# EAGLE library part 74AC139SC (library Flipdot)
2-4 Line Decoder
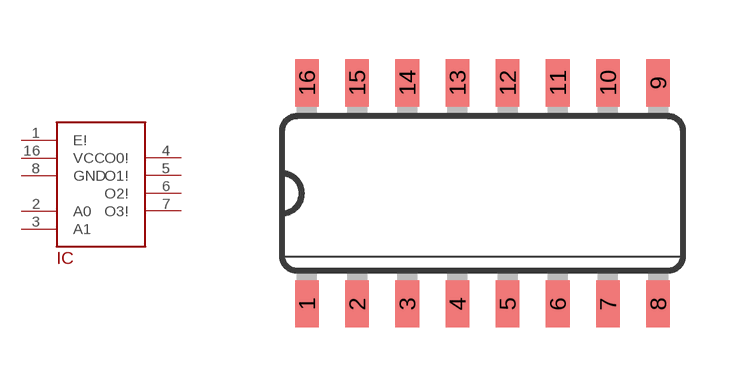
[diagram p6: symbol with the pads of SO16; footprint SO16]

Designator prefix IC

## 74AC139SC  [SO16]
1  E!
2  A0
3  A1
4  O0!
5  O1!
6  O2!
7  O3!
8  GND
16  VCC

## Footprint SO16 (pad centres in mm)
Small Outline package 150 mil
smd 0.6 x 1.2: 1 -4.445,-2.8; 2 -3.175,-2.8; 3 -1.905,-2.8; 4 -0.635,-2.8; 5 0.635,-2.8; 6 1.905,-2.8; 7 3.175,-2.8; 8 4.445,-2.8; 9 4.445,2.8; 10 3.175,2.8; 11 1.905,2.8; 12 0.635,2.8; 13 -0.635,2.8; 14 -1.905,2.8; 15 -3.175,2.8; 16 -4.445,2.8